# Altium footprint library SPW2430.PcbLib: 1 footprints
Each footprint in its own frame and in the unit in brackets; x right, y up, seen from the top. Pads: shape width x height; smd on the part's side, far side on the other; paste and mask are expansions set on the pad; w line width, h text height; cw(c..) or ccw(c..) is an arc to the next point about the centre after c.
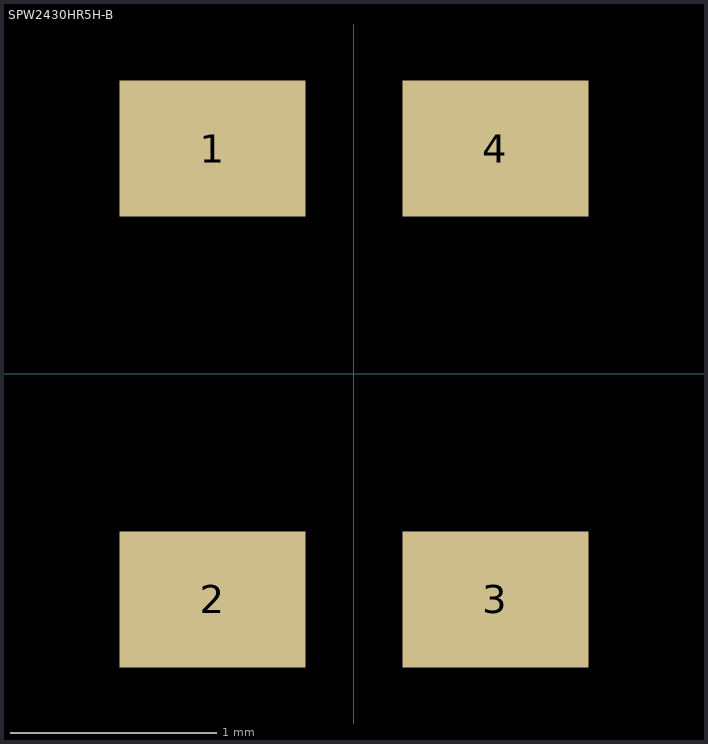
[diagram p0: the footprint, top view; thin cyan lines are the x and y axes]

## SPW2430HR5H-B [mil] "SPW2430HR5H-B MEMS Microphone"
pads (4):
  rect 35.43x25.98 smd: 1(-27,43) 2(-27,-43) 3(27,-43) 4(27,43)
3D body: height 43.31, standoff 30, extent -10,15 10,35
3D body: height 39.37, standoff 5, extent -45,-55 45,55
3D body: height 10, standoff 0, extent -50,-60 50,60